# Altium schematic symbol library PMA3-43-1W+.SchLib: 1 symbol
Pins are listed as number, name and electrical type; pins without a type are passive.

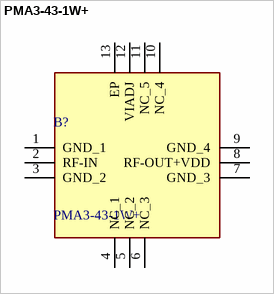
[diagram p0: symbol PMA3-43-1W+]

## PMA3-43-1W+
designator B?
RF Amplifier SMT MMIC, Power Amplifier, 10 MHz to 4000 MHz, 50ohm, 3x3 mm QFN Style Package; Manufacturer_Name: Mini-Circuits; Geometry.Height: 0.89mm; Manufacturer_Part_Number: PMA3-43-1W+; Mouser Part Number: *; Mouser Price/Stock: *; Arrow Part Number: *; Arrow Price/Stock: *; Datasheet Link: https://www.minicircuits.com/pdfs/PMA3-43-1W+.pdf
footprint QFN51P300X300X89-13N
pins: 1 GND_1, 2 RF-IN, 3 GND_2, 4 NC_1, 5 NC_2, 6 NC_3, 7 GND_3, 8 RF-OUT+VDD, 9 GND_4, 10 NC_4, 11 NC_5, 12 VIADJ, 13 EP